# EAGLE library part CON_HRS-FXA-100 (library akita)
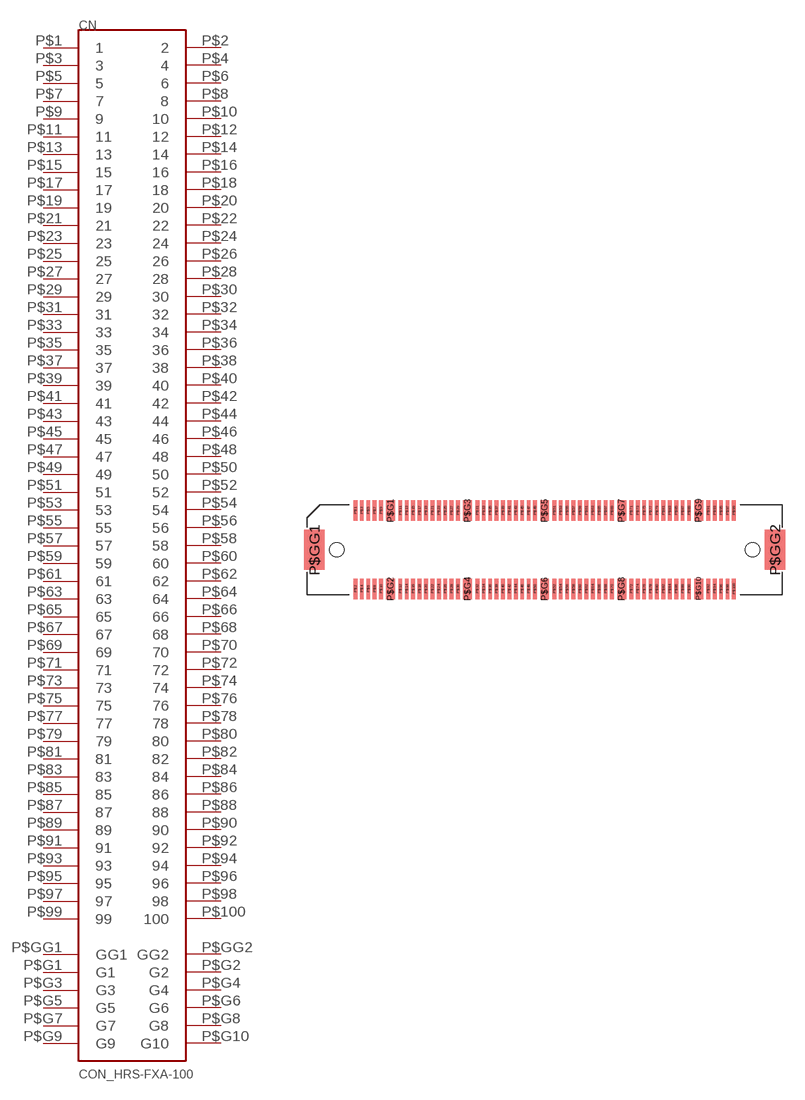
[diagram p111: symbol with the pads of CON_HRS-FX10A-100S; footprint CON_HRS-FX10A-100S]

Designator prefix CN

## CON_HRS-FXA-100S  [CON_HRS-FX10A-100S]
P$1  1
P$2  2
P$3  3
P$4  4
P$5  5
P$6  6
P$7  7
P$8  8
P$9  9
P$10  10
P$11  11
P$12  12
P$13  13
P$14  14
P$15  15
P$16  16
P$17  17
P$18  18
P$19  19
P$20  20
P$21  21
P$22  22
P$23  23
P$24  24
P$25  25
P$26  26
P$27  27
P$28  28
P$29  29
P$30  30
P$31  31
P$32  32
P$33  33
P$34  34
P$35  35
P$36  36
P$37  37
P$38  38
P$39  39
P$40  40
P$41  41
P$42  42
P$43  43
P$44  44
P$45  45
P$46  46
P$47  47
P$48  48
P$49  49
P$50  50
P$51  51
P$52  52
P$53  53
P$54  54
P$55  55
P$56  56
P$57  57
P$58  58
P$59  59
P$60  60
P$61  61
P$62  62
P$63  63
P$64  64
P$65  65
P$66  66
P$67  67
P$68  68
P$69  69
P$70  70
P$71  71
P$72  72
P$73  73
P$74  74
P$75  75
P$76  76
P$77  77
P$78  78
P$79  79
P$80  80
P$81  81
P$82  82
P$83  83
P$84  84
P$85  85
P$86  86
P$87  87
P$88  88
P$89  89
P$90  90
P$91  91
P$92  92
P$93  93
P$94  94
P$95  95
P$96  96
P$97  97
P$98  98
P$99  99
P$100  100
P$G1  G1
P$G2  G2
P$G3  G3
P$G4  G4
P$G5  G5
P$G6  G6
P$G7  G7
P$G8  G8
P$G9  G9
P$G10  G10
P$GG1  GG1
P$GG2  GG2

## Footprint CON_HRS-FX10A-100S (pad centres in mm)
smd 0.3 x 1.6: P$1 -14.75,3.05; P$2 -14.75,-3.05; P$3 -14.25,3.05; P$4 -14.25,-3.05; P$5 -13.75,3.05; P$6 -13.75,-3.05; P$7 -13.25,3.05; P$8 -13.25,-3.05; P$9 -12.75,3.05; P$10 -12.75,-3.05; P$11 -11.25,3.05; P$12 -11.25,-3.05; P$13 -10.75,3.05; P$14 -10.75,-3.05; P$15 -10.25,3.05; P$16 -10.25,-3.05; P$17 -9.75,3.05; P$18 -9.75,-3.05; P$19 -9.25,3.05; P$20 -9.25,-3.05; P$21 -8.75,3.05; P$22 -8.75,-3.05; P$23 -8.25,3.05; P$24 -8.25,-3.05; P$25 -7.75,3.05; P$26 -7.75,-3.05; P$27 -7.25,3.05; P$28 -7.25,-3.05; P$29 -6.75,3.05; P$30 -6.75,-3.05; P$31 -5.25,3.05; P$32 -5.25,-3.05; P$33 -4.75,3.05; P$34 -4.75,-3.05; P$35 -4.25,3.05; P$36 -4.25,-3.05; P$37 -3.75,3.05; P$38 -3.75,-3.05; P$39 -3.25,3.05; P$40 -3.25,-3.05; P$41 -2.75,3.05; P$42 -2.75,-3.05; P$43 -2.25,3.05; P$44 -2.25,-3.05; P$45 -1.75,3.05; P$46 -1.75,-3.05; P$47 -1.25,3.05; P$48 -1.25,-3.05; P$49 -0.75,3.05; P$50 -0.75,-3.05; P$51 0.75,3.05; P$52 0.75,-3.05; P$53 1.25,3.05; P$54 1.25,-3.05; P$55 1.75,3.05; P$56 1.75,-3.05; P$57 2.25,3.05; P$58 2.25,-3.05; P$59 2.75,3.05; P$60 2.75,-3.05; P$61 3.25,3.05; P$62 3.25,-3.05; P$63 3.75,3.05; P$64 3.75,-3.05; P$65 4.25,3.05; P$66 4.25,-3.05; P$67 4.75,3.05; P$68 4.75,-3.05; P$69 5.25,3.05; P$70 5.25,-3.05; P$71 6.75,3.05; P$72 6.75,-3.05; P$73 7.25,3.05; P$74 7.25,-3.05; P$75 7.75,3.05; P$76 7.75,-3.05; P$77 8.25,3.05; P$78 8.25,-3.05; P$79 8.75,3.05; P$80 8.75,-3.05; P$81 9.25,3.05; P$82 9.25,-3.05; P$83 9.75,3.05; P$84 9.75,-3.05; P$85 10.25,3.05; P$86 10.25,-3.05; P$87 10.75,3.05; P$88 10.75,-3.05; P$89 11.25,3.05; P$90 11.25,-3.05; P$91 12.75,3.05; P$92 12.75,-3.05; P$93 13.25,3.05; P$94 13.25,-3.05; P$95 13.75,3.05; P$96 13.75,-3.05; P$97 14.25,3.05; P$98 14.25,-3.05; P$99 14.75,3.05; P$100 14.75,-3.05
smd 0.7 x 1.6: P$G1 -12,3.05; P$G2 -12,-3.05; P$G3 -6,3.05; P$G4 -6,-3.05; P$G5 0,3.05; P$G6 0,-3.05; P$G7 6,3.05; P$G8 6,-3.05; P$G9 12,3.05; P$G10 12,-3.05
smd 1.6 x 3.1: P$GG1 -17.95,0; P$GG2 17.95,0
hole 1.1 at -16.2,0
hole 1.1 at 16.2,0